# EAGLE library part PICLF1825 (library my_components)
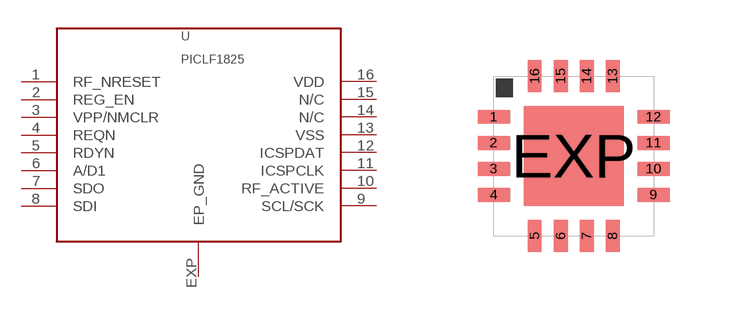
[diagram p1: symbol with the pads of QFN-16; footprint QFN-16]

Designator prefix -

## PICLF1825  [QFN-16]
1  RF_NRESET
2  REG_EN
3  VPP/NMCLR
4  REQN
5  RDYN
6  A/D1
7  SDO
8  SDI
9  SCL/SCK
10  RF_ACTIVE
11  ICSPCLK
12  ICSPDAT
13  VSS
14  N/C
15  N/C
16  VDD
EXP  EP_GND

## Footprint QFN-16 (pad centres in mm)
smd 0.8 x 0.35: 1 -2,0.975; 2 -2,0.325; 3 -2,-0.325; 4 -2,-0.975; 9 2,-0.975; 10 2,-0.325; 11 2,0.325; 12 2,0.975
smd 0.35 x 0.8: 5 -0.975,-2; 6 -0.325,-2; 7 0.325,-2; 8 0.975,-2; 13 0.975,2; 14 0.325,2; 15 -0.325,2; 16 -0.975,2
smd 2.5 x 2.5: EXP 0,0